# Altium schematic symbol library EverLight Photo Transistor.SchLib: 1 symbol
Pins are listed as number, name and electrical type; pins without a type are passive.

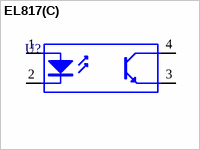
[diagram p0: symbol EL817(C)]

## EL817(C)
designator U?
Optoisolator Transistor Output 5000Vrms 1 Channel 4-DIP; Manufacturer: EverLight; PartNumber: EL817(C); Package: 4-DIP; PackageDescription: 4-DIP (0.300", 7.62mm); Supplier 1: Digi-Key; Supplier Part Number 1: EL817(C)-ND
footprint DIP-4
pins: 1 A "Anode", 2 K "Cathode", 3 E "Emitter", 4 C "Collector"